# Altium schematic symbol library SCH - MCU - SI LABS - SI LABS EFR32FG1V232F256GM32 32-PIN QFN 5X5.SchLib: 1 symbol
Pins are listed as number, name and electrical type; pins without a type are passive.

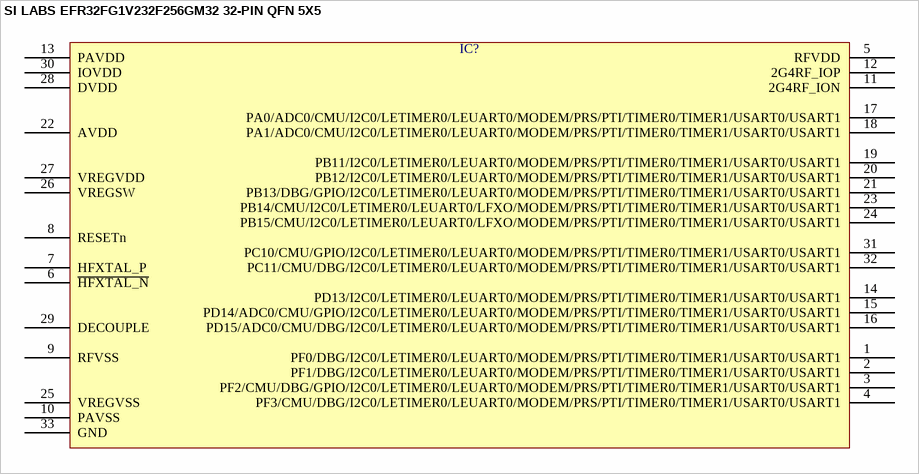
[diagram p0: symbol SI LABS EFR32FG1V232F256GM32 32-PIN QFN 5X5]

## SI LABS EFR32FG1V232F256GM32 32-PIN QFN 5X5
designator IC?  (value not drawn)
pins: 1 PF0/DBG/I2C0/LETIMER0/LEUART0/MODEM/PRS/PTI/TIMER0/TIMER1/USART0/USART1, 2 PF1/DBG/I2C0/LETIMER0/LEUART0/MODEM/PRS/PTI/TIMER0/TIMER1/USART0/USART1, 3 PF2/CMU/DBG/GPIO/I2C0/LETIMER0/LEUART0/MODEM/PRS/PTI/TIMER0/TIMER1/USART0/USART1, 4 PF3/CMU/DBG/I2C0/LETIMER0/LEUART0/MODEM/PRS/PTI/TIMER0/TIMER1/USART0/USART1, 5 RFVDD, 6 ~{HFXTAL_N}, 7 HFXTAL_P, 8 RESETn, 9 RFVSS, 10 PAVSS, 11 2G4RF_ION, 12 2G4RF_IOP, 13 PAVDD, 14 PD13/I2C0/LETIMER0/LEUART0/MODEM/PRS/PTI/TIMER0/TIMER1/USART0/USART1, 15 PD14/ADC0/CMU/GPIO/I2C0/LETIMER0/LEUART0/MODEM/PRS/PTI/TIMER0/TIMER1/USART0/USART1, 16 PD15/ADC0/CMU/DBG/I2C0/LETIMER0/LEUART0/MODEM/PRS/PTI/TIMER0/TIMER1/USART0/USART1, 17 PA0/ADC0/CMU/I2C0/LETIMER0/LEUART0/MODEM/PRS/PTI/TIMER0/TIMER1/USART0/USART1, 18 PA1/ADC0/CMU/I2C0/LETIMER0/LEUART0/MODEM/PRS/PTI/TIMER0/TIMER1/USART0/USART1, 19 PB11/I2C0/LETIMER0/LEUART0/MODEM/PRS/PTI/TIMER0/TIMER1/USART0/USART1, 20 PB12/I2C0/LETIMER0/LEUART0/MODEM/PRS/PTI/TIMER0/TIMER1/USART0/USART1, 21 PB13/DBG/GPIO/I2C0/LETIMER0/LEUART0/MODEM/PRS/PTI/TIMER0/TIMER1/USART0/USART1, 22 AVDD, 23 PB14/CMU/I2C0/LETIMER0/LEUART0/LFXO/MODEM/PRS/PTI/TIMER0/TIMER1/USART0/USART1, 24 PB15/CMU/I2C0/LETIMER0/LEUART0/LFXO/MODEM/PRS/PTI/TIMER0/TIMER1/USART0/USART1, 25 VREGVSS, 26 VREGSW, 27 VREGVDD, 28 DVDD, 29 DECOUPLE, 30 IOVDD, 31 PC10/CMU/GPIO/I2C0/LETIMER0/LEUART0/MODEM/PRS/PTI/TIMER0/TIMER1/USART0/USART1, 32 PC11/CMU/DBG/I2C0/LETIMER0/LEUART0/MODEM/PRS/PTI/TIMER0/TIMER1/USART0/USART1, 33 GND